# Altium integrated library TLW-106-05-T-S.IntLib: 1 symbol
Pins are listed as number, name and electrical type; pins without a type are passive.

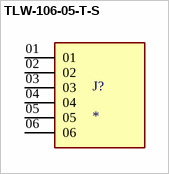
[diagram p0: symbol TLW-106-05-T-S]

## TLW-106-05-T-S
designator J?
MP: TLW-106-05-T-S; Price: None; Value: *; Availability: Unavailable; Package: None
footprint SAMTEC_TLW-106-05-T-S
pins: 01, 02, 03, 04, 05, 06